# Altium footprint library PLHD-20.PcbLib: 1 footprints
Each footprint in its own frame and in the unit in brackets; x right, y up, seen from the top. Pads: shape width x height; smd on the part's side, far side on the other; paste and mask are expansions set on the pad; w line width, h text height; cw(c..) or ccw(c..) is an arc to the next point about the centre after c.
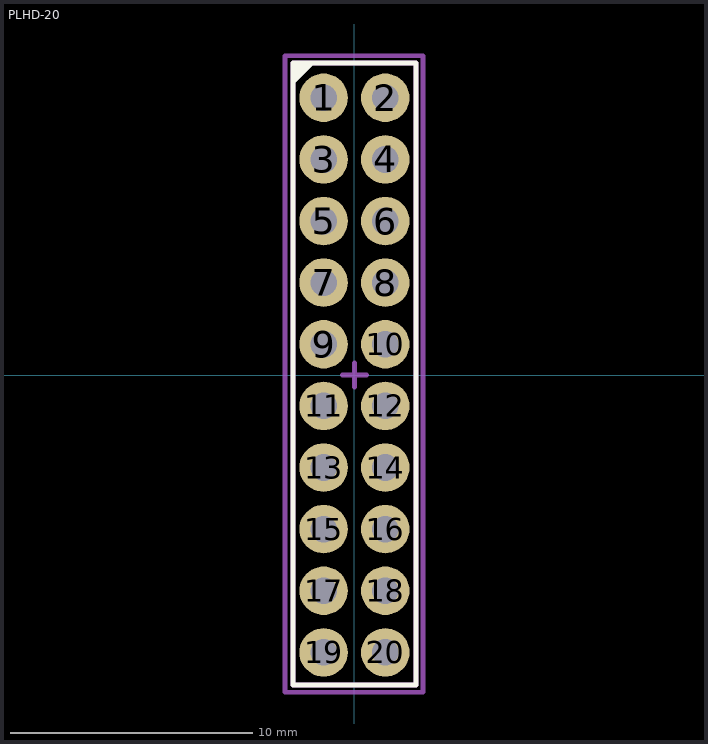
[diagram p0: the footprint, top view; thin cyan lines are the x and y axes]

## PLHD-20 [mm] "2.54mm 2x10 pin high male"
height 5
pads (20):
  round 2 hole 1.1: 1(-1.27,11.43) 2(1.27,11.43) 3(-1.27,8.89) 4(1.27,8.89) 5(-1.27,6.35) 6(1.27,6.35) 7(-1.27,3.81) 8(1.27,3.81) 9(-1.27,1.27) 10(1.27,1.27) 11(-1.27,-1.27) 12(1.27,-1.27) 13(-1.27,-3.81) 14(1.27,-3.81) 15(-1.27,-6.35) 16(1.27,-6.35) 17(-1.27,-8.89) 18(1.27,-8.89) 19(-1.27,-11.43) 20(1.27,-11.43)
Top Overlay:
  region: -2.5,12.89 -2.5,11.99 -1.6,12.89
  lines w0.2: -2.54,-12.77 -2.54,12.86 2.53,12.86 2.53,-12.77 -2.54,-12.77
  text "." at -3.8,11.1 h5
Top Component Center:
  lines w0.2: -0.499,-0.001 0.501,-0.001 ; 0.001,-0.501 0.001,0.499
Top Assembly:
  lines w0.2: -2.54,-12.77 -2.54,12.86 2.53,12.86 2.53,-12.77 -2.54,-12.77
Top Courtyard:
  lines w0.2: -2.87,-13.07 -2.87,13.16 2.83,13.16 2.83,-13.07 -2.87,-13.07
3D body "X_PLHD_2x10_P2,54.stp": height 16.5, standoff -3, extent -2.54,-12.7 2.54,12.7